# Altium footprint library DSUB15-M90.PcbLib: 1 footprints
Each footprint in its own frame and in the unit in brackets; x right, y up, seen from the top. Pads: shape width x height; smd on the part's side, far side on the other; paste and mask are expansions set on the pad; w line width, h text height; cw(c..) or ccw(c..) is an arc to the next point about the centre after c.
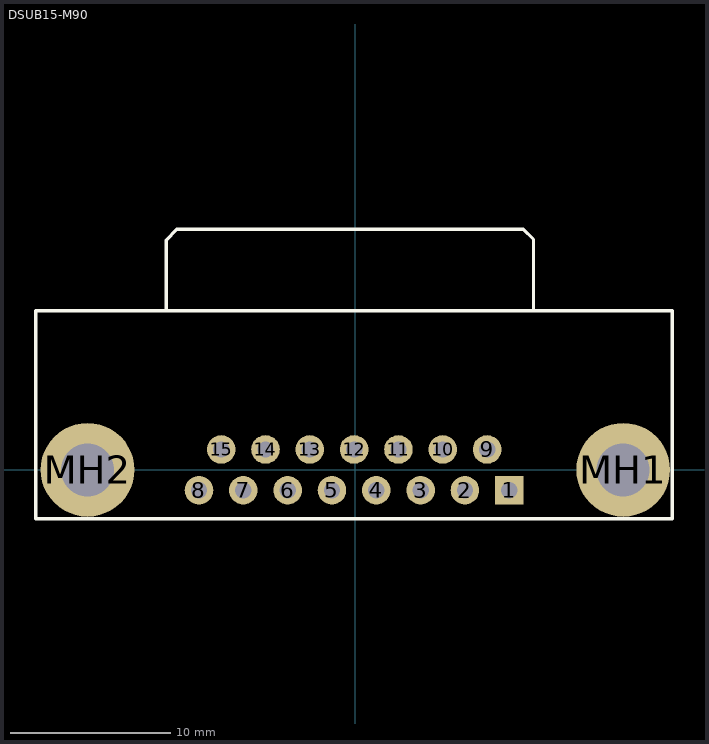
[diagram p0: the footprint, top view; thin cyan lines are the x and y axes]

## DSUB15-M90 [mil]
pads (17):
  rect 70x70 hole 40: 1(377.24,-50)
  round 70 hole 40: 2(268.58,-50) 3(159.92,-50) 4(51.26,-50) 5(-57.4,-50) 6(-166.06,-50) 7(-274.73,-50) 8(-383.39,-50) 9(322.91,50) 10(214.25,50) 11(105.59,50) 12(-3.07,50) 13(-111.73,50) 14(-220.39,50) 15(-329.06,50)
  round 230 hole 130: MH1(656.61,0) MH2(-656.61,0)
Top Overlay:
  lines w8: -463.39,390 -463.39,563.23 -438.39,590 411.61,590 436.61,565 436.61,390 ; -783.39,-120 776.61,-120 776.61,390 -783.39,390 -783.39,-120
3D body: height 472.44, standoff 78.74, extent -465,390 435,590
3D body: height 488.19, standoff 0, extent -783.37,-119.98 776.59,389.98